# Altium schematic symbol library access_LIB.SchLib: 4 symbols
Pins are listed as number, name and electrical type; pins without a type are passive.

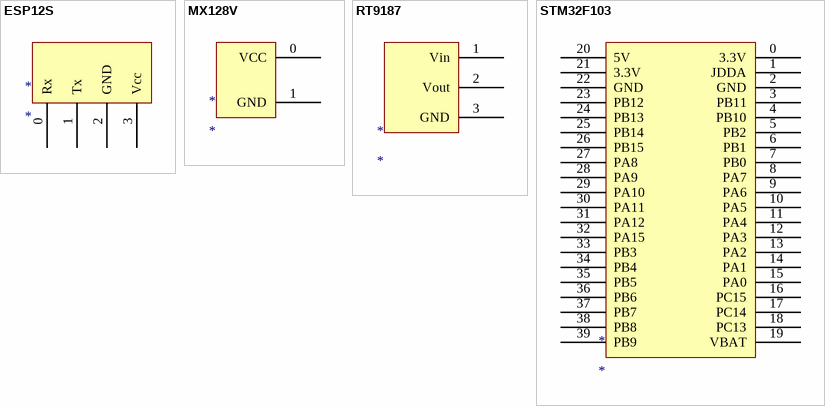
[diagram p0: symbols ESP12S to STM32F103]

## ESP12S
designator *
footprint ESP12S
pins: 0 Rx, 1 Tx, 2 GND, 3 Vcc

## MX128V
designator *
footprint MX128V
pins: 0 VCC, 1 GND

## RT9187
designator *
footprint RT9187
pins: 1 Vin, 2 Vout, 3 GND

## STM32F103
designator *
footprint STM32F103
pins: 0 3.3V, 1 JDDA, 2 GND, 3 PB11, 4 PB10, 5 PB2, 6 PB1, 7 PB0, 8 PA7, 9 PA6, 10 PA5, 11 PA4, 12 PA3, 13 PA2, 14 PA1, 15 PA0, 16 PC15, 17 PC14, 18 PC13, 19 VBAT, 20 5V, 21 3.3V, 22 GND, 23 PB12, 24 PB13, 25 PB14, 26 PB15, 27 PA8, 28 PA9, 29 PA10, 30 PA11, 31 PA12, 32 PA15, 33 PB3, 34 PB4, 35 PB5, 36 PB6, 37 PB7, 38 PB8, 39 PB9